# Altium footprint library WSON-8(2.0X2.0).PcbLib: 1 footprints
Each footprint in its own frame and in the unit in brackets; x right, y up, seen from the top. Pads: shape width x height; smd on the part's side, far side on the other; paste and mask are expansions set on the pad; w line width, h text height; cw(c..) or ccw(c..) is an arc to the next point about the centre after c.
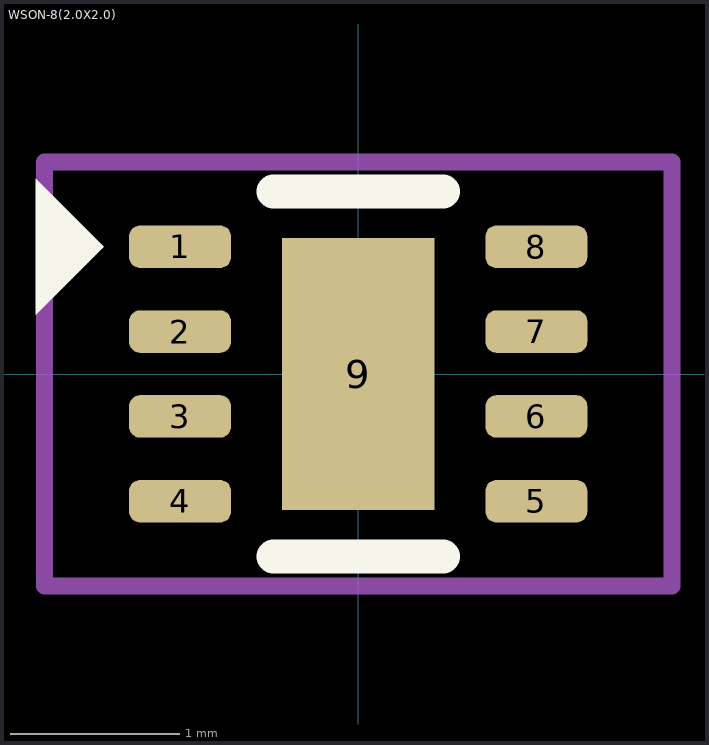
[diagram p0: the footprint, top view; thin cyan lines are the x and y axes]

## WSON-8(2.0X2.0) [mm]
pads (9):
  rrect50% 0.6x0.25 smd: 1(-1.05,0.75) 2(-1.05,0.25) 3(-1.05,-0.25) 4(-1.05,-0.75) 5(1.05,-0.75) 6(1.05,-0.25) 7(1.05,0.25) 8(1.05,0.75)
  rect 0.9x1.6 smd: 9(0,0)
Top Overlay:
  region: -1.9,0.35 -1.9,1.15 -1.5,0.75
  lines w0.2: -0.5,-1.075 0.5,-1.075 ; -0.5,1.075 0.5,1.075
Top Courtyard:
  lines w0.1: -1.85,-1.25 -1.85,1.25 1.85,1.25 1.85,-1.25 -1.85,-1.25
3D body "DRV8231ADSGR.stp": height 0.77, standoff 0, extent -1,-1 1,1